# EAGLE library part LMV112 (library national-semi)
DUAL CLOCK BUFFER
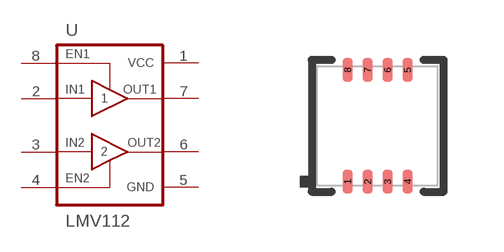
[diagram p8: symbol with the pads of LLP8-3X3; footprint LLP8-3X3]

Designator prefix U

## LMV112  [LLP8-3X3]
1  VCC  pwr
2  IN1  in
3  IN2  in
4  EN2  in
5  GND  pwr
6  OUT2  out
7  OUT1  out
8  EN1  in

## Footprint LLP8-3X3 (pad centres in mm)
8-Pin LLP (3x3mm body) NS Package Number SDA08A
smd 0.25 x 0.6: 1 -0.75,-1.4; 2 -0.25,-1.4; 3 0.25,-1.4; 4 0.75,-1.4; 5 0.75,1.4; 6 0.25,1.4; 7 -0.25,1.4; 8 -0.75,1.4